# EAGLE library part ZD1937 (library vreg-pulse)
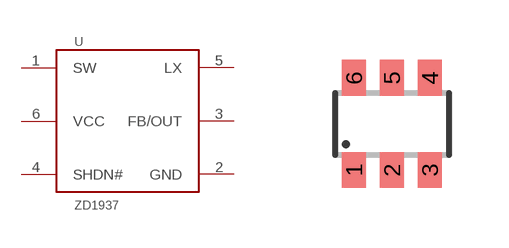
[diagram p4: symbol with the pads of SOT23-6; footprint SOT23-6]

Designator prefix U

## ZD1937LB5  [SOT23-6]
1  SW  pas
2  GND  pwr
3  FB/OUT  in
4  SHDN#  in
5  LX  pas
6  VCC  pwr

## Footprint SOT23-6 (pad centres in mm)
Small Outline Transistor 6 lead
smd 0.6 x 0.9: 1 -0.95,-1.15; 2 0,-1.15; 3 0.95,-1.15; 4 0.95,1.15; 5 0,1.15; 6 -0.95,1.15